# Altium footprint library IC.PcbLib: 26 footprints (part 2 of 2)
Each footprint in its own frame and in the unit in brackets; x right, y up, seen from the top. Pads: shape width x height; smd on the part's side, far side on the other; paste and mask are expansions set on the pad; w line width, h text height; cw(c..) or ccw(c..) is an arc to the next point about the centre after c.
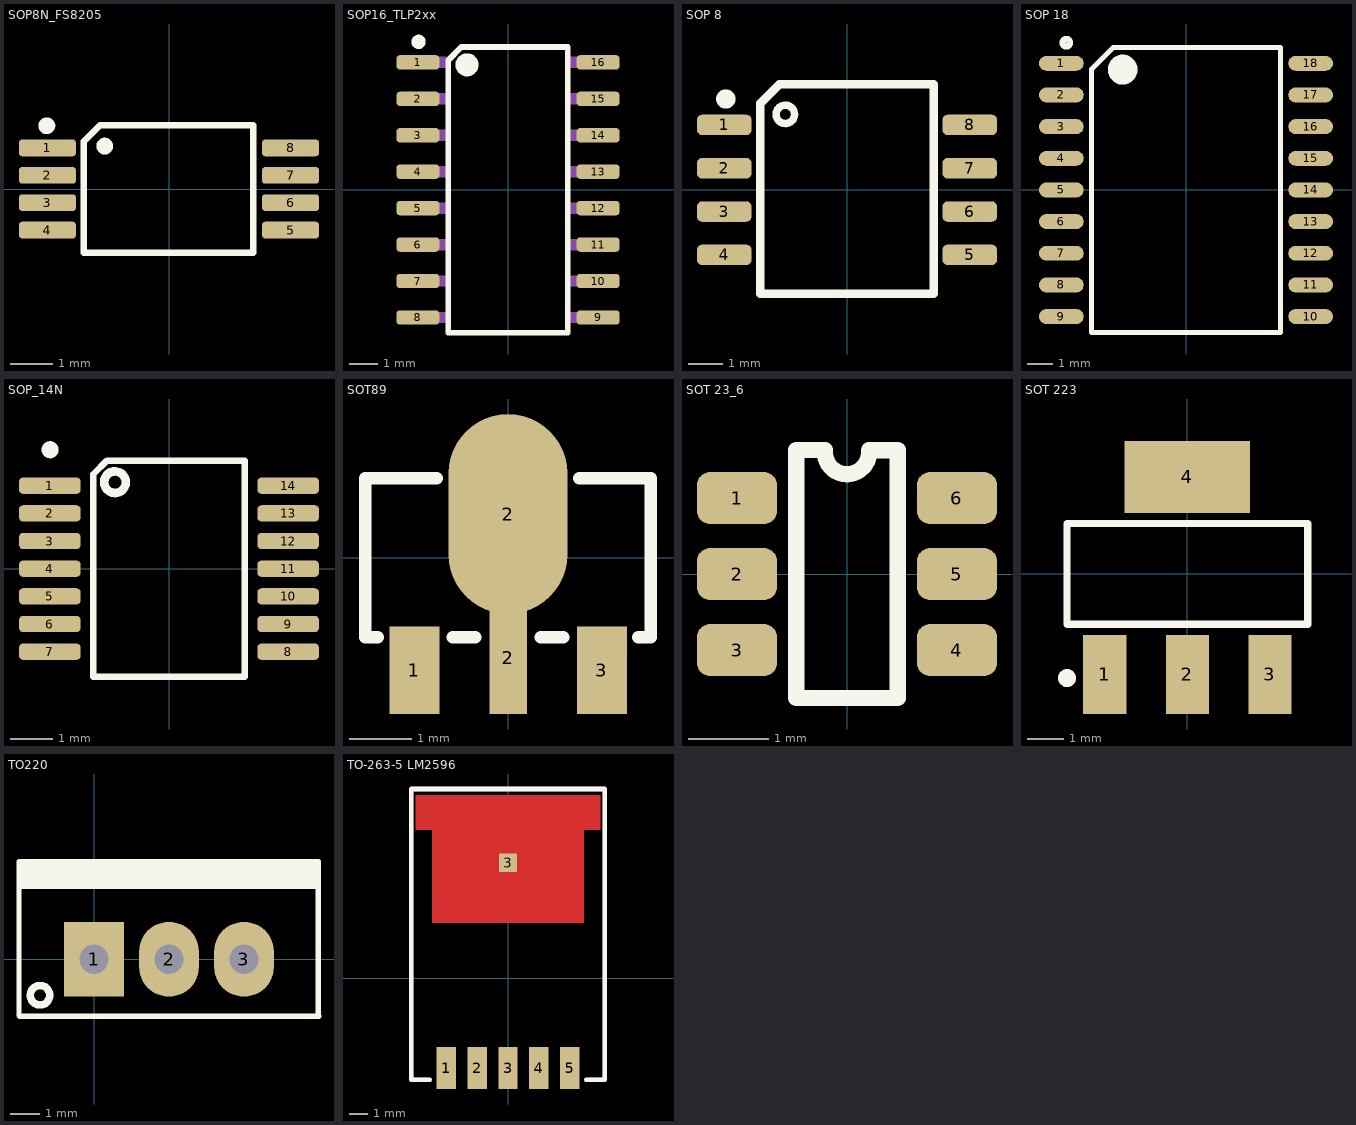
[diagram p1: the footprints below, top view; thin cyan lines are the x and y axes]

## SOP8N_FS8205 [mm] "MOSFET"
pads (8):
  rrect40% 1.35x0.4 smd mask+0.076: 1(-2.88,0.975) 2(-2.88,0.325) 3(-2.88,-0.325) 4(-2.88,-0.975) 5(2.88,-0.975) 6(2.88,-0.325) 7(2.88,0.325) 8(2.88,0.975)
Top Overlay:
  circle w0.2: c-2.896,1.499 r0.1
  circle w0.2: c-1.524,1.016 r0.1
  lines w0.152: -2.019,-1.515 2,-1.515 2,1.515 -1.63,1.515 -2.019,1.127 -2.019,-1.515
3D body "TSOP65P640X120_HS-9N.step": height 1.2, standoff 0, extent -3.2,-1.5 3.2,1.5

## SOP16_TLP2xx [mm]
pads (16):
  rrect50% 1.5x0.5 smd: 1(-3.14,4.445) 2(-3.14,3.175) 3(-3.14,1.905) 4(-3.14,0.635) 5(-3.14,-0.635) 6(-3.14,-1.905) 7(-3.14,-3.175) 8(-3.14,-4.445) 9(3.14,-4.445) 10(3.14,-3.175) 11(3.14,-1.905) 12(3.14,-0.635) 13(3.14,0.635) 14(3.14,1.905) 15(3.14,3.175) 16(3.14,4.445)
Top Overlay:
  circle w0.3: c-3.121,5.159 r0.1
  circle w0.4: c-1.428,4.358 r0.2
  lines w0.203: -2.085,-4.978 2.085,-4.978 2.085,4.978 -1.626,4.978 -2.085,4.519 -2.085,-4.978
Mechanical 13:
  region: -2.15,4.255 -3.471,4.255 -3.471,4.635 -2.15,4.635
  region: -2.15,2.984 -3.471,2.984 -3.471,3.365 -2.15,3.365
  region: -2.15,1.714 -3.471,1.714 -3.471,2.095 -2.15,2.095
  region: -2.15,0.445 -3.471,0.445 -3.471,0.826 -2.15,0.826
  region: -2.15,-0.826 -3.471,-0.826 -3.471,-0.445 -2.15,-0.445
  region: -2.15,-2.095 -3.471,-2.095 -3.471,-1.714 -2.15,-1.714
  region: -2.15,-3.365 -3.471,-3.365 -3.471,-2.984 -2.15,-2.984
  region: -2.15,-4.635 -3.471,-4.635 -3.471,-4.255 -2.15,-4.255
  region: 3.471,-4.635 2.15,-4.635 2.15,-4.255 3.471,-4.255
  region: 3.471,-3.365 2.15,-3.365 2.15,-2.984 3.471,-2.984
  region: 3.471,-2.095 2.15,-2.095 2.15,-1.714 3.471,-1.714
  region: 3.471,-0.826 2.15,-0.826 2.15,-0.445 3.471,-0.445
  region: 3.471,0.445 2.15,0.445 2.15,0.826 3.471,0.826
  region: 3.471,1.714 2.15,1.714 2.15,2.095 3.471,2.095
  region: 3.471,2.984 2.15,2.984 2.15,3.365 3.471,3.365
  region: 3.471,4.255 2.15,4.255 2.15,4.635 3.471,4.635
3D body "step_temp.STEP": height 2.1, standoff 0, extent -3.5,-5.15 3.5,5.15

## SOP 8 [mm] "SMD"
pads (8):
  rrect50% 1.6x0.6 smd: 1(-3.6,1.905) 2(-3.6,0.635) 3(-3.6,-0.635) 4(-3.6,-1.905) 5(3.6,-1.905) 6(3.6,-0.635) 7(3.6,0.635) 8(3.6,1.905)
Top Overlay:
  circle w0.127: c-1.809,2.216 r0.316
  circle w0.127: c-1.809,2.216 r0.224
  circle w0.5: c-3.556,2.667 r0.03
  lines w0.254: -2.54,-3.048 2.54,-3.048 2.54,3.1 -1.98,3.1 -2.54,2.54 -2.54,-3.048
3D body "TL317PS.STEP": height 2, standoff 0, extent -3.9,-3.1 3.9,3.1

## SOP 18 [mm] "SOIC, 18-Leads, Body 11.50x7.50mm, Pitch 1.27mm, IPC Medium Density"
height 2.3
pads (18):
  oval 1.8x0.6 smd: 1(-5,5.08) 2(-5,3.81) 3(-5,2.54) 4(-5,1.27) 5(-5,0) 6(-5,-1.27) 7(-5,-2.54) 8(-5,-3.81) 9(-5,-5.08) 10(5,-5.08) 11(5,-3.81) 12(5,-2.54) 13(5,-1.27) 14(5,0) 15(5,1.27) 16(5,2.54) 17(5,3.81) 18(5,5.08)
Top Overlay:
  circle w0.6: c-2.54,4.826 r0.3
  circle w0.25: c-4.8,5.905 r0.15
  lines w0.2: -3.784,-5.715 -3.784,4.852 -2.921,5.715 3.784,5.715 3.784,-5.715 -3.784,-5.715
3D body "User Library-SOIC18-300.step": height 2.7, standoff 0.05, extent -5.15,-5.765 5.15,5.765

## SOP_14N [mil] "SMD"
pads (14):
  rrect50% 57x15 smd mask+3: 1(-110.24,76.77) 2(-110.24,51.18) 3(-110.24,25.59) 4(-110.24,0) 5(-110.24,-25.59) 6(-110.24,-51.18) 7(-110.24,-76.77) 8(110.24,-76.77) 9(110.24,-51.18) 10(110.24,-25.59) 11(110.24,0) 12(110.24,25.59) 13(110.24,51.18) 14(110.24,76.77)
Top Overlay:
  circle w8: c-50,80 r10
  circle w7.87: c-110,110 r3.94
  lines w6: -70,-100 70,-100 70,100 -57.34,100 -70,87.34 -70,-100
3D body "SN74LV125APW.STEP": height 47.24, standoff 0, extent -125.98,-98.42 125.99,98.43

## SOT89 [mm]
pads (4):
  rect 0.8x1.4 smd: 1(-1.5,-1.8) 3(1.5,-1.8)
  rect 0.6x1.8 smd: 2(0,-1.6)
  oval 1.9x3.2 smd: 2(0,0.7)
Top Overlay:
  lines w0.203: -2.083,-1.27 -2.286,-1.27 -2.286,1.27 -1.143,1.27 ; -0.883,-1.27 -0.527,-1.27 ; 0.527,-1.27 0.883,-1.27 ; 1.143,1.27 2.286,1.27 2.286,-1.27 2.083,-1.27
3D body "sot89.step": height 1.4, standoff 0, extent -2.25,-2.185 2.25,1.75

## SOT 23_6 [mm] "SMD"
pads (6):
  rrect50% 1x0.65 smd mask+0.051: 1(-1.375,0.95) 2(-1.375,0) 3(-1.375,-0.95) 4(1.375,-0.95) 5(1.375,0) 6(1.375,0.95)
Top Overlay:
  lines w0.203: 0.635,1.548 0.276,1.548 cw(c0,1.524) -0.276,1.55 -0.635,1.55 -0.635,-1.55 0.635,-1.55 0.635,1.55
3D body "SOT95P290X110-6N.step": height 1.1, standoff 0, extent -1.5,-1.525 1.5,1.525

## SOT 223 [mm] "SMD"
pads (4):
  rect 1.2x2.2 smd: 1(-2.3,-2.8) 2(0,-2.8) 3(2.3,-2.8)
  rect 3.5x2 smd: 4(0,2.7)
Top Overlay:
  circle w0.25: c-3.35,-2.9 r0.125
  lines w0.2: -3.35,-1.4 -3.35,1.4 3.35,1.4 3.35,-1.4 -3.35,-1.4
3D body "SW3DPS-SOT-223-DEFAULT.step": height 1.68, standoff 0, extent -3.25,-3.556 3.25,3.404

## TO220 [mil] "TO220"
height 200
pads (3):
  rect 80x100 hole 39: 1(0,0)
  oval 80x100 hole 39: 2(100,0) 3(200,0)
Top Overlay:
  circle w10: c-72.03,-48 r12.97
  rectangle: -99,94 300,130
  lines w7: 298,107 299,93 ; -100,-75 -100,130 299,130 299,-75 300,-76 -76,-76 -99,-76 -100,-75
3D body "User Library-TO-220-1.STEP": height 322.83, standoff -810.24, extent -94.88,-80 294.88,97.17

## TO-263-5 LM2596 [mm] "SMD"
height 4.65
pads (6):
  rect 1.07x2.3 smd: 1(-3.4,-4.953) 2(-1.7,-4.953) 3(0,-4.953) 4(1.7,-4.953) 5(3.4,-4.953)
  rect 1x1 smd: 3(0,6.35)
Top Layer:
  region: 5.084,10.082 5.084,8.172 4.169,8.172 4.169,3.048 -4.161,3.048 -4.161,8.172 -5.076,8.172 -5.076,10.082
Top Overlay:
  lines w0.254: -4.318,-5.588 -5.334,-5.588 -5.334,10.414 5.334,10.414 5.334,-5.588 4.318,-5.588
Mechanical 13:
  lines w0.254: -4.318,-5.588 -5.334,-5.588 -5.334,10.414 5.334,10.414 5.334,-5.588 4.318,-5.588
  text "'.Designator'" at -2.794,-2.559 h1.52
3D body "TO263-5.STEP": height 4.88, standoff 0.08, extent -4.996,-5.588 5.004,10.082